# Altium footprint library DisplayDevice.PcbLib: 2 footprints
Each footprint in its own frame and in the unit in brackets; x right, y up, seen from the top. Pads: shape width x height; smd on the part's side, far side on the other; paste and mask are expansions set on the pad; w line width, h text height; cw(c..) or ccw(c..) is an arc to the next point about the centre after c.
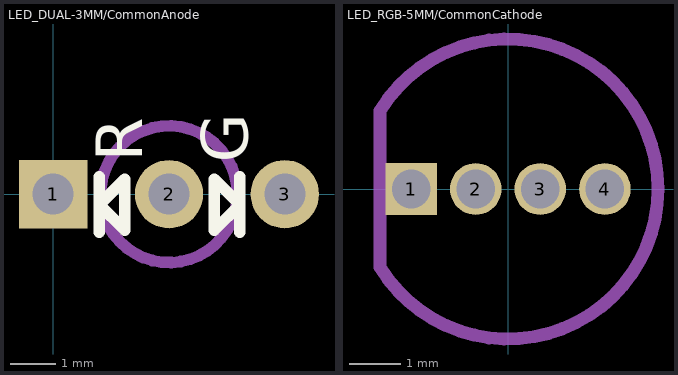
[diagram p0: the footprints below, top view; thin cyan lines are the x and y axes]

## LED_DUAL-3MM/CommonAnode [mm] "Common Anode 3mm LED in Red and Green"
pads (3):
  rect 1.5x1.5 hole 0.9: 1(0,0)
  round 1.5 hole 0.9: 2(2.54,0) 3(5.08,0)
Top Overlay:
  lines w0.254: 1.01,-0.838 1.01,0.381 ; 4.096,-0.838 4.096,0.381 ; 1.01,-0.229 1.569,-0.787 1.569,0.33 1.01,-0.229 ; 3.537,-0.787 3.537,0.33 4.096,-0.229 3.537,-0.787
  text "G" at 4.267,0.686 h1.02
  text "R" at 1.956,0.711 h1.02
Mechanical 13:
  circle w0.254: c2.54,0 r1.5

## LED_RGB-5MM/CommonCathode [mil] "Common Anode 3mm LED in Red and Green"
pads (4):
  rect 40x40 hole 30: 1(-75,0)
  round 40 hole 30: 2(-25,0) 3(25,0) 4(75,0)
Mechanical 13:
  lines w10: -99.28,-60.27 ccw(c0,0) -99.28,60.27 ; -99.21,-60.24 -99.21,60.24